# EAGLE library part 66100711622 (library WR-WTB)
WR-WTB 2.54 mm Male Vertical Shrouded Header Material Properties Insulator Material co Insulator Flammability Rating UL94 V-0 Color Black Contact Material Phosphor Bronze Contact Plating Tin General Information Operating Temperature -40 °C up to +125 °C Compliance RoHS IR 3 A Working Voltage 50 V (AC) Withstanding Voltage 500 V (AC) Contact Resistance 20 mΩ Pitch 2.54 mm Gender Male Type Vertical Packaging Properties Packaging Box <https://www.we-online.com/components/media/o58903v209%20Multi-WR-WTB254-6610xx11622.jpg> Details see: www.we-online.com/en/components/products/WTB_2_54_MALE_VERTICAL_SHROUDED_HEADER_GLOW_WIRE_PLASTIC_6610XXX1622 <www.we-online.com/catalog/WTB_2_54_MALE_VERTICAL_SHROUDED_HEADER_GLOW_WIRE_PLASTIC_6610XXX1622/?utm_source=eagle_model&utm_medium=description_link&utm_campaign=eisos_eagle> Updated by Ella 2025-03-06 2025 (C) Würth Elektronik
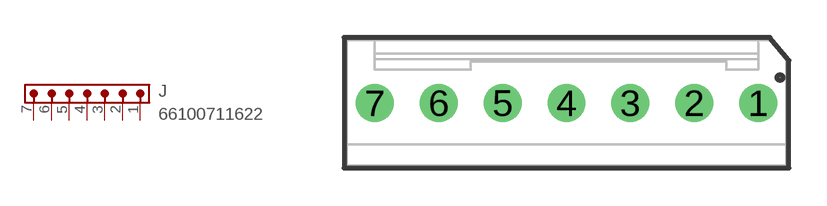
[diagram p134: symbol with the pads of 66100711622; footprint 66100711622]

Designator prefix J

## 66100711622 (CONTACT-RESISTANCE: 20mOhm; DATASHEET-URL: https://www.we-online.com/redexpert/spec/66100711622?ae; GENDER: Male; IR: 3A; L: 17.48mm; MOUNT: THT; PACKAGING: Box; PART-NUMBER: 66100711622; PCB-CABLE-PANEL: PCB; PINS: 7; PITCH: 2.54mm; TYPE: Vertical; VALUE: 66100711622; WORKING-VOLTAGE: 50V(AC))  [66100711622]
1  1  pas
2  2  pas
3  3  pas
4  4  pas
5  5  pas
6  6  pas
7  7  pas

## Footprint 66100711622 (pad centres in mm)
WR-WTB 2.54 mm Male Vertical Shrouded Header THT, 7Pins
drill 1: 1 7.62,0; 2 5.08,0; 3 2.54,0; 4 0,0; 5 -2.54,0; 6 -5.08,0; 7 -7.62,0